# EAGLE library part MCP2551 (library _GpsAttitude)
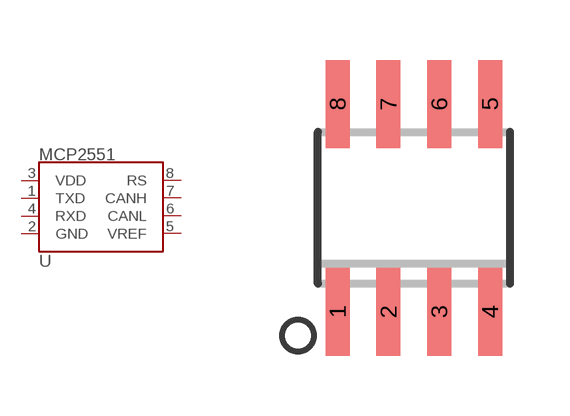
[diagram p10: symbol with the pads of SOIC8; footprint SOIC8]

Designator prefix U

## MCP2551  [SOIC8]
1  TXD
2  GND  pwr
3  VDD  pwr
4  RXD  out
5  VREF  out
6  CANL
7  CANH
8  RS  in

## Footprint SOIC8 (pad centres in mm)
Small Outline IC
smd 0.6 x 2.2: 1 -1.905,-2.6; 2 -0.635,-2.6; 3 0.635,-2.6; 4 1.905,-2.6; 5 1.905,2.6; 6 0.635,2.6; 7 -0.635,2.6; 8 -1.905,2.6